# EAGLE library part PIC16F690 (library microchip)
MICROCONTROLLER Flash-Based, 8-Bit CMOS Microcontrollers with nanoWatt Technol
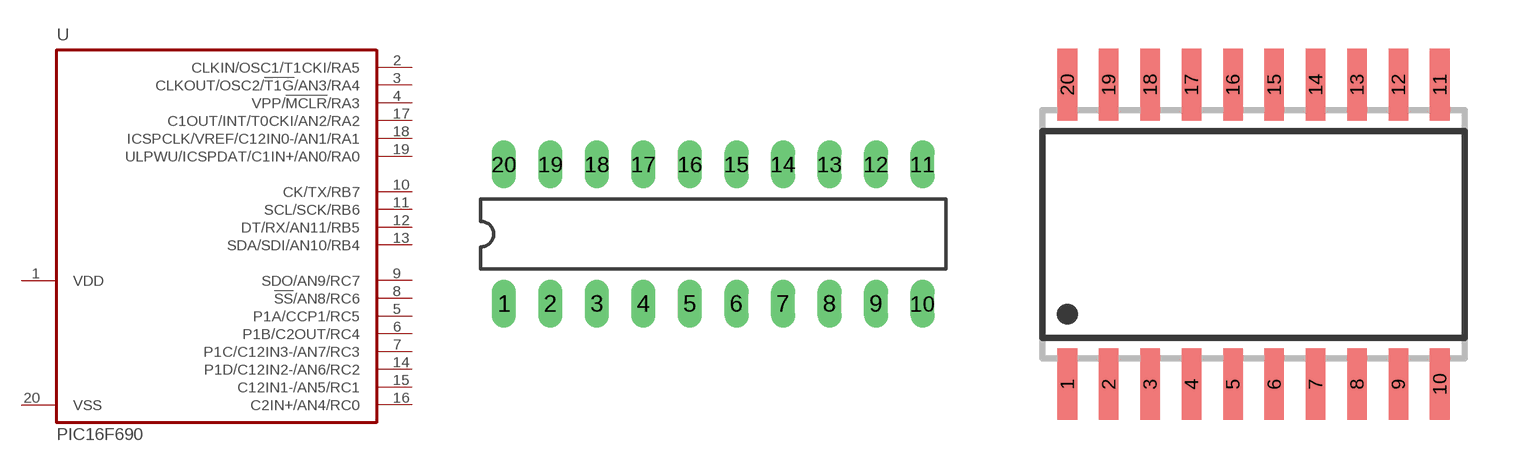
[diagram p133: symbol with the pads of DIL20; footprints DIL20, SO20W]

Designator prefix U

## PIC16F690-I/P  [DIL20]
1  VDD  pwr
2  CLKIN/OSC1/T1CKI/RA5
3  CLKOUT/OSC2/!T1G!/AN3/RA4
4  VPP/!MCLR!/RA3
5  P1A/CCP1/RC5
6  P1B/C2OUT/RC4
7  P1C/C12IN3-/AN7/RC3
8  !SS!/AN8/RC6
9  SDO/AN9/RC7
10  CK/TX/RB7
11  SCL/SCK/RB6
12  DT/RX/AN11/RB5
13  SDA/SDI/AN10/RB4
14  P1D/C12IN2-/AN6/RC2
15  C12IN1-/AN5/RC1
16  C2IN+/AN4/RC0
17  C1OUT/INT/T0CKI/AN2/RA2
18  ICSPCLK/VREF/C12IN0-/AN1/RA1
19  ULPWU/ICSPDAT/C1IN+/AN0/RA0
20  VSS  pwr

## PIC16F690-I/SO  [SO20W]
Pads as for DIL20

## PIC16F690-I/SS  [SSOP20]
Pads as for DIL20

## PIC16F690-I/ML  [QFN20]
1  VDD  pwr
2  CLKIN/OSC1/T1CKI/RA5
3  CLKOUT/OSC2/!T1G!/AN3/RA4
4  VPP/!MCLR!/RA3
5  P1A/CCP1/RC5
6  P1B/C2OUT/RC4
7  P1C/C12IN3-/AN7/RC3
8  !SS!/AN8/RC6
9  SDO/AN9/RC7
10  CK/TX/RB7
11  SCL/SCK/RB6
12  DT/RX/AN11/RB5
13  SDA/SDI/AN10/RB4
14  P1D/C12IN2-/AN6/RC2
15  C12IN1-/AN5/RC1
16  C2IN+/AN4/RC0
17  C1OUT/INT/T0CKI/AN2/RA2
18  ICSPCLK/VREF/C12IN0-/AN1/RA1
19  ULPWU/ICSPDAT/C1IN+/AN0/RA0
20  VSS  pwr
21  VSS  pwr

## Footprint DIL20 (pad centres in mm)
Dual In Line Package
drill 0.813 long: 1 -11.43,-3.81; 2 -8.89,-3.81; 3 -6.35,-3.81; 4 -3.81,-3.81; 5 -1.27,-3.81; 6 1.27,-3.81; 7 3.81,-3.81; 8 6.35,-3.81; 9 8.89,-3.81; 10 11.43,-3.81; 11 11.43,3.81; 12 8.89,3.81; 13 6.35,3.81; 14 3.81,3.81; 15 1.27,3.81; 16 -1.27,3.81; 17 -3.81,3.81; 18 -6.35,3.81; 19 -8.89,3.81; 20 -11.43,3.81

## Footprint SO20W (pad centres in mm)
SMALL OUTLINE INTEGRATED CIRCUIT wide body 7.5 mm/JEDEC MS-013AC
smd 0.6 x 2.2: 1 -5.715,-4.6; 2 -4.445,-4.6; 3 -3.175,-4.6; 4 -1.905,-4.6; 5 -0.635,-4.6; 6 0.635,-4.6; 7 1.905,-4.6; 8 3.175,-4.6; 9 4.445,-4.6; 10 5.715,-4.6; 11 5.715,4.6; 12 4.445,4.6; 13 3.175,4.6; 14 1.905,4.6; 15 0.635,4.6; 16 -0.635,4.6; 17 -1.905,4.6; 18 -3.175,4.6; 19 -4.445,4.6; 20 -5.715,4.6

## Footprint SSOP20 (pad centres in mm)
Small Shrink Outline Package
smd 0.305 x 1.245: 1 -2.857,-3.302; 2 -2.222,-3.302; 3 -1.587,-3.302; 4 -0.952,-3.302; 5 -0.317,-3.302; 6 0.318,-3.302; 7 0.953,-3.302; 8 1.588,-3.302; 9 2.223,-3.302; 10 2.858,-3.302; 11 2.858,3.302; 12 2.223,3.302; 13 1.588,3.302; 14 0.953,3.302; 15 0.318,3.302; 16 -0.317,3.302; 17 -0.952,3.302; 18 -1.587,3.302; 19 -2.222,3.302; 20 -2.857,3.302

## Footprint QFN20 (pad centres in mm)
QFN20 4x4 mm, pitch 0.5 mm
smd 0.75 x 0.28: 1 -2,1; 2 -2,0.5; 3 -2,0; 4 -2,-0.5; 5 -2,-1; 11 2,-1; 12 2,-0.5; 13 2,0; 14 2,0.5; 15 2,1
smd 0.28 x 0.75: 6 -1,-2; 7 -0.5,-2; 8 0,-2; 9 0.5,-2; 10 1,-2; 16 1,2; 17 0.5,2; 18 0,2; 19 -0.5,2; 20 -1,2
smd 2 x 2: 21 0,0